# Altium footprint library Mypcb.PcbLib: 144 footprints (part 6 of 9)
Each footprint in its own frame and in the unit in brackets; x right, y up, seen from the top. Pads: shape width x height; smd on the part's side, far side on the other; paste and mask are expansions set on the pad; w line width, h text height; cw(c..) or ccw(c..) is an arc to the next point about the centre after c.
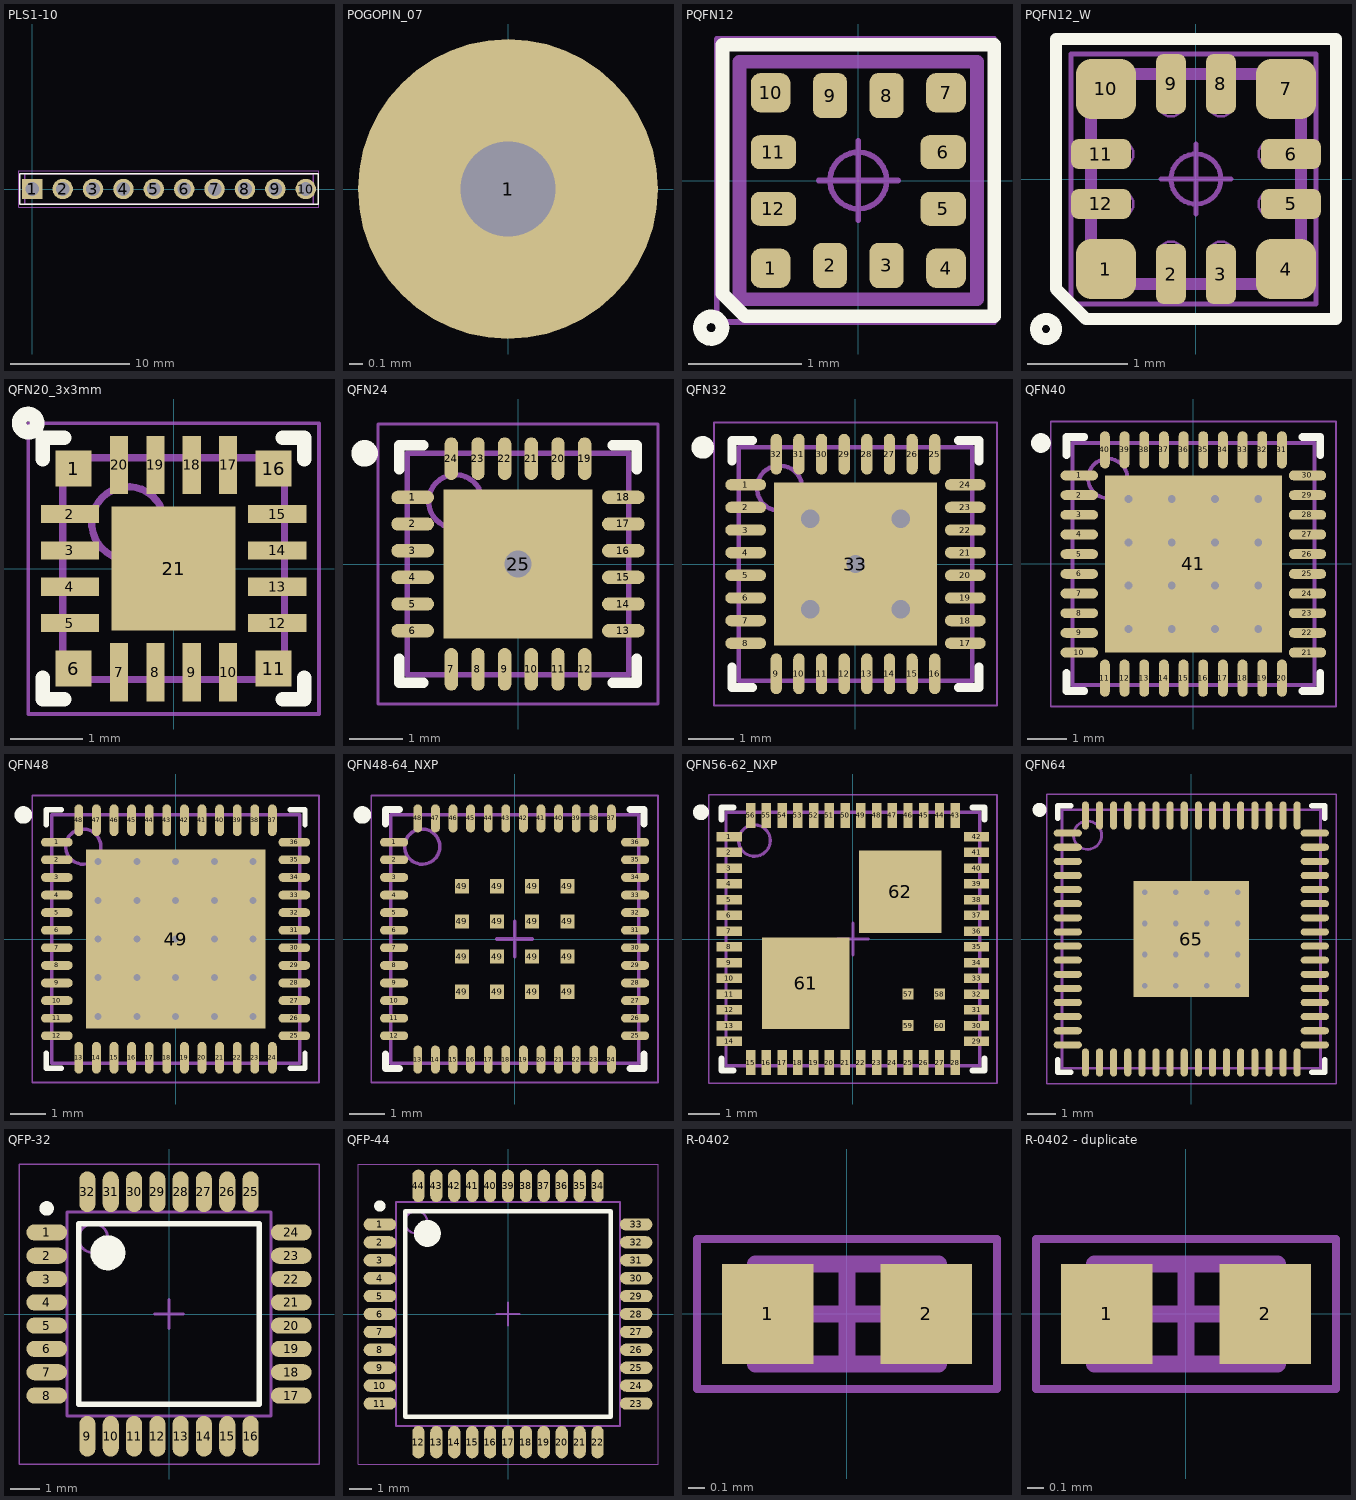
[diagram p5: the footprints below, top view; thin cyan lines are the x and y axes]

## PLS1-10 [mm] "Header, Vertical, 2.54 mm pitch; 0.70 mm lead width, 10 pins, 1 row, 10 pins per row, 24.13 mm L X 2.54 mm W X 7.54 mm H body"
height 7.54
pads (10):
  rect 1.71x1.71 hole 1.14 paste-1.71: 1(0,0)
  round 1.71 hole 1.14 paste-1.71: 2(2.54,0) 3(5.08,0) 4(7.62,0) 5(10.16,0) 6(12.7,0) 7(15.24,0) 8(17.78,0) 9(20.32,0) 10(22.86,0)
Top Overlay:
  lines w0.12: -1.04,-1.27 23.9,-1.27 23.9,1.27 -1.04,1.27 -1.04,-1.27
Mechanical 11:
  lines w0.12: -0.64,-1.27 23.5,-1.27 23.5,1.27 -0.64,1.27 -0.64,-1.27
Mechanical 12:
  lines w0.025: -0.635,-1.27 23.495,-1.27 23.495,1.27 -0.635,1.27 -0.635,-1.27 ; -0.35,-0.35 0.35,-0.35 0.35,0.35 -0.35,0.35 -0.35,-0.35 ; 2.19,-0.35 2.89,-0.35 2.89,0.35 2.19,0.35 2.19,-0.35 ; 4.73,-0.35 5.43,-0.35 5.43,0.35 4.73,0.35 4.73,-0.35 ; 7.27,-0.35 7.97,-0.35 7.97,0.35 7.27,0.35 7.27,-0.35 ; 9.81,-0.35 10.51,-0.35 10.51,0.35 9.81,0.35 9.81,-0.35 ; 12.35,-0.35 13.05,-0.35 13.05,0.35 12.35,0.35 12.35,-0.35 ; 14.89,-0.35 15.59,-0.35 15.59,0.35 14.89,0.35 14.89,-0.35 ; 17.43,-0.35 18.13,-0.35 18.13,0.35 17.43,0.35 17.43,-0.35 ; 19.97,-0.35 20.67,-0.35 20.67,0.35 19.97,0.35 19.97,-0.35 ; 22.51,-0.35 23.21,-0.35 23.21,0.35 22.51,0.35 22.51,-0.35
Mechanical 15:
  circle w0.05: c0,0 r0.25
  lines w0.05: -0.35,0 0.35,0 ; 0,-0.35 0,0.35 ; -1.11,-1.52 23.97,-1.52 23.97,1.52 -1.11,1.52 -1.11,-1.52
3D body "HDRV10W70P254_10X1_2413X254H754.STEP": height 7.54, standoff -2.3, extent -0.635,-1.27 23.495,1.27

## POGOPIN_07 [mm]
pads (1):
  round 2.2 hole 0.7: 1(0,0)
3D body "Pogo_pins_P75-B1.stp": height 15, standoff -1.44, extent -0.506,-0.509 0.51,0.509

## PQFN12 [mm] "Pullback Quad Flat No-Lead (PQFN), 0.50 mm pitch; square, 4 pin X 2 pin, 2.00 mm L X 2.00 mm W X 0.70 mm H body"
height 0.7
pads (12):
  rrect51% 0.35x0.35 smd: 1(-0.775,-0.775) 4(0.775,-0.775) 7(0.775,0.775) 10(-0.775,0.775)
  rrect51% 0.3x0.4 smd: 2(-0.25,-0.75) 3(0.25,-0.75) 8(0.25,0.75) 9(-0.25,0.75)
  rrect51% 0.4x0.3 smd: 5(0.75,-0.25) 6(0.75,0.25) 11(-0.75,0.25) 12(-0.75,-0.25)
Top Overlay:
  circle w0.12: c-1.3,-1.3 r0.1
  lines w0.12: -1.2,-1 -1,-1.2 1.2,-1.2 1.2,1.2 -1.2,1.2 -1.2,-1
Mechanical 11:
  lines w0.12: -1.05,-1.05 1.05,-1.05 1.05,1.05 -1.05,1.05 -1.05,-1.05
Mechanical 12:
  lines w0.025: -1,-1 1,-1 1,1 -1,1 -1,-1 ; -0.9,-0.375 -0.9,-0.125 -0.75,-0.125 cw(c-0.75,-0.25) -0.75,-0.375 -0.9,-0.375 ; -0.9,0.125 -0.9,0.375 -0.75,0.375 cw(c-0.75,0.25) -0.75,0.125 -0.9,0.125 ; -0.875,-0.9 -0.625,-0.9 -0.625,-0.75 ccw(c-0.75,-0.75) -0.875,-0.75 -0.875,-0.9 ; -0.875,0.75 ccw(c-0.75,0.75) -0.625,0.75 -0.625,0.9 -0.875,0.9 -0.875,0.75 ; -0.375,-0.9 -0.125,-0.9 -0.125,-0.75 ccw(c-0.25,-0.75) -0.375,-0.75 -0.375,-0.9 ; -0.375,0.75 ccw(c-0.25,0.75) -0.125,0.75 -0.125,0.9 -0.375,0.9 -0.375,0.75 ; 0.125,-0.9 0.375,-0.9 0.375,-0.75 ccw(c0.25,-0.75) 0.125,-0.75 0.125,-0.9 ; 0.125,0.75 ccw(c0.25,0.75) 0.375,0.75 0.375,0.9 0.125,0.9 0.125,0.75 ; 0.625,-0.9 0.875,-0.9 0.875,-0.75 ccw(c0.75,-0.75) 0.625,-0.75 0.625,-0.9 ; 0.625,0.75 ccw(c0.75,0.75) 0.875,0.75 0.875,0.9 0.625,0.9 0.625,0.75 ; 0.75,-0.375 cw(c0.75,-0.25) 0.75,-0.125 0.9,-0.125 0.9,-0.375 0.75,-0.375 ; 0.75,0.125 cw(c0.75,0.25) 0.75,0.375 0.9,0.375 0.9,0.125 0.75,0.125
Mechanical 15:
  circle w0.05: c0,0 r0.25
  lines w0.05: -0.35,0 0.35,0 ; 0,-0.35 0,0.35 ; -1.25,-1.25 1.2,-1.25 1.2,1.25 -1.25,1.25 -1.25,-1.25
3D body "PQFN12P50_200X200X70L27X25.STEP": height 0.7, standoff 0, extent -1,-1 1,1

## PQFN12_W [mm]
pads (12):
  rrect51% 0.6x0.6 smd: 1(-0.9,-0.9) 4(0.9,-0.9) 7(0.9,0.9) 10(-0.9,0.9)
  rrect51% 0.3x0.6 smd: 2(-0.25,-0.95) 3(0.25,-0.95) 8(0.25,0.95) 9(-0.25,0.95)
  rrect51% 0.6x0.3 smd: 5(0.95,-0.25) 6(0.95,0.25) 11(-0.95,0.25) 12(-0.95,-0.25)
Top Overlay:
  circle w0.12: c-1.5,-1.5 r0.1
  lines w0.12: -1.4,-1.1 -1.1,-1.4 1.4,-1.4 1.4,1.4 -1.4,1.4 -1.4,-1.1
Mechanical 11:
  lines w0.12: -1.05,-1.05 1.05,-1.05 1.05,1.05 -1.05,1.05 -1.05,-1.05
Mechanical 12:
  lines w0.025: -1,-1 1,-1 1,1 -1,1 -1,-1 ; -0.9,-0.375 -0.9,-0.125 -0.75,-0.125 cw(c-0.75,-0.25) -0.75,-0.375 -0.9,-0.375 ; -0.9,0.125 -0.9,0.375 -0.75,0.375 cw(c-0.75,0.25) -0.75,0.125 -0.9,0.125 ; -0.875,-0.9 -0.625,-0.9 -0.625,-0.75 ccw(c-0.75,-0.75) -0.875,-0.75 -0.875,-0.9 ; -0.875,0.75 ccw(c-0.75,0.75) -0.625,0.75 -0.625,0.9 -0.875,0.9 -0.875,0.75 ; -0.375,-0.9 -0.125,-0.9 -0.125,-0.75 ccw(c-0.25,-0.75) -0.375,-0.75 -0.375,-0.9 ; -0.375,0.75 ccw(c-0.25,0.75) -0.125,0.75 -0.125,0.9 -0.375,0.9 -0.375,0.75 ; 0.125,-0.9 0.375,-0.9 0.375,-0.75 ccw(c0.25,-0.75) 0.125,-0.75 0.125,-0.9 ; 0.125,0.75 ccw(c0.25,0.75) 0.375,0.75 0.375,0.9 0.125,0.9 0.125,0.75 ; 0.625,-0.9 0.875,-0.9 0.875,-0.75 ccw(c0.75,-0.75) 0.625,-0.75 0.625,-0.9 ; 0.625,0.75 ccw(c0.75,0.75) 0.875,0.75 0.875,0.9 0.625,0.9 0.625,0.75 ; 0.75,-0.375 cw(c0.75,-0.25) 0.75,-0.125 0.9,-0.125 0.9,-0.375 0.75,-0.375 ; 0.75,0.125 cw(c0.75,0.25) 0.75,0.375 0.9,0.375 0.9,0.125 0.75,0.125
Mechanical 15:
  circle w0.05: c0,0 r0.25
  lines w0.05: -0.35,0 0.35,0 ; 0,-0.35 0,0.35 ; -1.25,-1.25 1.2,-1.25 1.2,1.25 -1.25,1.25 -1.25,-1.25
3D body "PQFN12P50_200X200X70L27X25.STEP": height 0.7, standoff 0, extent -1,-1 1,1

## QFN20_3x3mm [mm] "QFN, 20-Leads, Body 3,00x3,00mm, Pitch 0,50mm, Thermal Pad 1,70x1,70mm, IPC Medium Density"
height 0.6
pads (21):
  rect 0.5x0.5 smd: 1(-1.375,1.375) 6(-1.375,-1.375) 11(1.375,-1.375) 16(1.375,1.375)
  rect 0.8x0.25 smd: 2(-1.425,0.75) 3(-1.425,0.25) 4(-1.425,-0.25) 5(-1.425,-0.75) 12(1.425,-0.75) 13(1.425,-0.25) 14(1.425,0.25) 15(1.425,0.75)
  rect 0.25x0.8 smd: 7(-0.75,-1.425) 8(-0.25,-1.425) 9(0.25,-1.425) 10(0.75,-1.425) 17(0.75,1.425) 18(0.25,1.425) 19(-0.25,1.425) 20(-0.75,1.425)
  rect 1.7x1.7 smd: 21(0,0)
Top Overlay:
  circle w0.2: c-2,2 r0.125
  lines w0.2: -1.8,-1.5 -1.8,-1.8 -1.5,-1.8 ; -1.8,1.5 -1.8,1.8 -1.5,1.8 ; 1.5,-1.8 1.8,-1.8 1.8,-1.5 ; 1.5,1.8 1.8,1.8 1.8,1.5
Mechanical 13:
  circle w0.1: c-0.625,0.625 r0.5
  lines w0.1: -1.525,-1.525 1.525,-1.525 1.525,1.525 -1.525,1.525 -1.525,-1.525
Mechanical 15:
  lines w0.05: -2,-2 2,-2 2,2 -2,2 -2,-2
  lines w0.1: -0.5,0 0.5,0 ; 0,-0.5 0,0.5
3D body "QFN50P300X300X60_HS-21N.step": height 0.6, standoff 0, extent -1.526,-1.526 1.526,1.526

## QFN24 [mm] "QFN, 24-Leads, Body 4,00x4,00mm, Pitch 0,50mm, Thermal Pad 2,80x2,80mm, IPC Medium Density"
height 1
pads (25):
  oval 0.8x0.25 smd: 1(-1.975,1.25) 2(-1.975,0.75) 3(-1.975,0.25) 4(-1.975,-0.25) 5(-1.975,-0.75) 6(-1.975,-1.25) 13(1.975,-1.25) 14(1.975,-0.75) 15(1.975,-0.25) 16(1.975,0.25) 17(1.975,0.75) 18(1.975,1.25)
  oval 0.25x0.8 smd: 7(-1.25,-1.975) 8(-0.75,-1.975) 9(-0.25,-1.975) 10(0.25,-1.975) 11(0.75,-1.975) 12(1.25,-1.975) 19(1.25,1.975) 20(0.75,1.975) 21(0.25,1.975) 22(-0.25,1.975) 23(-0.75,1.975) 24(-1.25,1.975)
  rect 2.8x2.8 smd: 25(0,0)
via 0,0 diameter 1 hole 0.5
Top Overlay:
  circle w0.25: c-2.875,2.075 r0.125
  lines w0.2: -2.225,-1.775 -2.225,-2.225 -1.775,-2.225 ; -2.225,1.775 -2.225,2.225 -1.775,2.225 ; 1.775,-2.225 2.225,-2.225 2.225,-1.775 ; 1.775,2.225 2.225,2.225 2.225,1.775
Mechanical 13:
  circle w0.1: c-1.175,1.175 r0.5
  lines w0.1: -2.075,-2.075 2.075,-2.075 2.075,2.075 -2.075,2.075 -2.075,-2.075
Mechanical 15:
  lines w0.05: -2.625,-2.625 2.625,-2.625 2.625,2.625 -2.625,2.625 -2.625,-2.625
  lines w0.1: -0.5,0 0.5,0 ; 0,-0.5 0,0.5
3D body: height 1, standoff 0.01, extent -2.075,-2.075 2.075,2.075

## QFN32 [mm] "QFN, 32-Leads, Body 5,00x5,00mm, Pitch 0,50mm, Thermal Pad 3,60x3,60mm, IPC Medium Density"
height 1
pads (33):
  oval 0.9x0.25 smd: 1(-2.425,1.75) 2(-2.425,1.25) 3(-2.425,0.75) 4(-2.425,0.25) 5(-2.425,-0.25) 6(-2.425,-0.75) 7(-2.425,-1.25) 8(-2.425,-1.75) 17(2.425,-1.75) 18(2.425,-1.25) 19(2.425,-0.75) 20(2.425,-0.25) 21(2.425,0.25) 22(2.425,0.75) 23(2.425,1.25) 24(2.425,1.75)
  oval 0.25x0.9 smd: 9(-1.75,-2.425) 10(-1.25,-2.425) 11(-0.75,-2.425) 12(-0.25,-2.425) 13(0.25,-2.425) 14(0.75,-2.425) 15(1.25,-2.425) 16(1.75,-2.425) 25(1.75,2.425) 26(1.25,2.425) 27(0.75,2.425) 28(0.25,2.425) 29(-0.25,2.425) 30(-0.75,2.425) 31(-1.25,2.425) 32(-1.75,2.425)
  rect 3.6x3.6 smd: 33(0,0)
via -1,-1 diameter 0.8 hole 0.4
via -1,1 diameter 0.8 hole 0.4
via 1,1 diameter 0.8 hole 0.4
via 1,-1 diameter 0.8 hole 0.4
via 0,0 diameter 0.8 hole 0.4
Top Overlay:
  circle w0.25: c-3.375,2.575 r0.125
  lines w0.2: -2.725,-2.275 -2.725,-2.725 -2.275,-2.725 ; -2.725,2.275 -2.725,2.725 -2.275,2.725 ; 2.275,-2.725 2.725,-2.725 2.725,-2.275 ; 2.275,2.725 2.725,2.725 2.725,2.275
Mechanical 13:
  circle w0.1: c-1.675,1.675 r0.5
  lines w0.1: -2.575,-2.575 -2.575,2.575 2.575,2.575 2.575,-2.575 -2.575,-2.575
Mechanical 15:
  lines w0.05: -3.125,-3.125 -3.125,3.125 3.125,3.125 3.125,-3.125 -3.125,-3.125
  lines w0.1: -0.5,0 0.5,0 ; 0,-0.5 0,0.5
3D body: height 1, standoff 0.01, extent -2.575,-2.575 2.575,2.575

## QFN40 [mm] "QFN, 40-Leads, Body 6,00x6,00mm, Pitch 0,50mm, Thermal Pad 4,50x4,50mm, IPC Medium Density"
height 1
pads (41):
  oval 0.95x0.25 smd: 1(-2.9,2.25) 2(-2.9,1.75) 3(-2.9,1.25) 4(-2.9,0.75) 5(-2.9,0.25) 6(-2.9,-0.25) 7(-2.9,-0.75) 8(-2.9,-1.25) 9(-2.9,-1.75) 10(-2.9,-2.25) 21(2.9,-2.25) 22(2.9,-1.75) 23(2.9,-1.25) 24(2.9,-0.75) 25(2.9,-0.25) 26(2.9,0.25) 27(2.9,0.75) 28(2.9,1.25) 29(2.9,1.75) 30(2.9,2.25)
  oval 0.25x0.95 smd: 11(-2.25,-2.9) 12(-1.75,-2.9) 13(-1.25,-2.9) 14(-0.75,-2.9) 15(-0.25,-2.9) 16(0.25,-2.9) 17(0.75,-2.9) 18(1.25,-2.9) 19(1.75,-2.9) 20(2.25,-2.9) 31(2.25,2.9) 32(1.75,2.9) 33(1.25,2.9) 34(0.75,2.9) 35(0.25,2.9) 36(-0.25,2.9) 37(-0.75,2.9) 38(-1.25,2.9) 39(-1.75,2.9) 40(-2.25,2.9)
  rect 4.5x4.5 smd: 41(0,0)
via -1.65,1.65 diameter 0.5 hole 0.2
via -0.55,1.65 diameter 0.5 hole 0.2
via 0.55,1.65 diameter 0.5 hole 0.2
via 1.65,1.65 diameter 0.5 hole 0.2
via -1.65,0.55 diameter 0.5 hole 0.2
via -0.55,0.55 diameter 0.5 hole 0.2
via 0.55,0.55 diameter 0.5 hole 0.2
via 1.65,0.55 diameter 0.5 hole 0.2
via -1.65,-0.55 diameter 0.5 hole 0.2
via -0.55,-0.55 diameter 0.5 hole 0.2
via 0.55,-0.55 diameter 0.5 hole 0.2
via 1.65,-0.55 diameter 0.5 hole 0.2
via -1.65,-1.65 diameter 0.5 hole 0.2
via -0.55,-1.65 diameter 0.5 hole 0.2
via 0.55,-1.65 diameter 0.5 hole 0.2
via 1.65,-1.65 diameter 0.5 hole 0.2
Top Overlay:
  circle w0.25: c-3.875,3.075 r0.125
  lines w0.2: -3.225,-2.775 -3.225,-3.225 -2.775,-3.225 ; -3.225,2.775 -3.225,3.225 -2.775,3.225 ; 2.775,-3.225 3.225,-3.225 3.225,-2.775 ; 2.775,3.225 3.225,3.225 3.225,2.775
Mechanical 13:
  circle w0.1: c-2.175,2.175 r0.5
  lines w0.1: -3.075,-3.075 -3.075,3.075 3.075,3.075 3.075,-3.075 -3.075,-3.075
Mechanical 15:
  lines w0.05: -3.625,-3.625 -3.625,3.625 3.625,3.625 3.625,-3.625 -3.625,-3.625
  lines w0.1: -0.5,0 0.5,0 ; 0,-0.5 0,0.5
3D body: height 1, standoff 0.01, extent -3.075,-3.075 3.075,3.075

## QFN48 [mm] "QFN, 48-Leads, Body 7,00x7,00mm, Pitch 0,50mm, Thermal Pad 5,10x5,10mm, IPC Medium Density"
height 1
pads (49):
  oval 0.9x0.25 smd: 1(-3.375,2.75) 2(-3.375,2.25) 3(-3.375,1.75) 4(-3.375,1.25) 5(-3.375,0.75) 6(-3.375,0.25) 7(-3.375,-0.25) 8(-3.375,-0.75) 9(-3.375,-1.25) 10(-3.375,-1.75) 11(-3.375,-2.25) 12(-3.375,-2.75) 25(3.375,-2.75) 26(3.375,-2.25) 27(3.375,-1.75) 28(3.375,-1.25) 29(3.375,-0.75) 30(3.375,-0.25) 31(3.375,0.25) 32(3.375,0.75) 33(3.375,1.25) 34(3.375,1.75) 35(3.375,2.25) 36(3.375,2.75)
  oval 0.25x0.9 smd: 13(-2.75,-3.375) 14(-2.25,-3.375) 15(-1.75,-3.375) 16(-1.25,-3.375) 17(-0.75,-3.375) 18(-0.25,-3.375) 19(0.25,-3.375) 20(0.75,-3.375) 21(1.25,-3.375) 22(1.75,-3.375) 23(2.25,-3.375) 24(2.75,-3.375) 37(2.75,3.375) 38(2.25,3.375) 39(1.75,3.375) 40(1.25,3.375) 41(0.75,3.375) 42(0.25,3.375) 43(-0.25,3.375) 44(-0.75,3.375) 45(-1.25,3.375) 46(-1.75,3.375) 47(-2.25,3.375) 48(-2.75,3.375)
  rect 5.1x5.1 smd: 49(0,0)
via 2.2,-2.2 diameter 0.5 hole 0.2
via 1.1,-2.2 diameter 0.5 hole 0.2
via 0,-2.2 diameter 0.5 hole 0.2
via -1.1,-2.2 diameter 0.5 hole 0.2
via -2.2,-2.2 diameter 0.5 hole 0.2
via 2.2,-1.1 diameter 0.5 hole 0.2
via 1.1,-1.1 diameter 0.5 hole 0.2
via 0,-1.1 diameter 0.5 hole 0.2
via -1.1,-1.1 diameter 0.5 hole 0.2
via -2.2,-1.1 diameter 0.5 hole 0.2
via 2.2,0 diameter 0.5 hole 0.2
via 1.1,0 diameter 0.5 hole 0.2
via 0,0 diameter 0.5 hole 0.2
via -1.1,0 diameter 0.5 hole 0.2
via -2.2,0 diameter 0.5 hole 0.2
via 2.2,1.1 diameter 0.5 hole 0.2
via 1.1,1.1 diameter 0.5 hole 0.2
via 0,1.1 diameter 0.5 hole 0.2
via -1.1,1.1 diameter 0.5 hole 0.2
via -2.2,1.1 diameter 0.5 hole 0.2
via 2.2,2.2 diameter 0.5 hole 0.2
via 1.1,2.2 diameter 0.5 hole 0.2
via 0,2.2 diameter 0.5 hole 0.2
via -1.1,2.2 diameter 0.5 hole 0.2
via -2.2,2.2 diameter 0.5 hole 0.2
Top Overlay:
  circle w0.25: c-4.325,3.525 r0.125
  lines w0.15: -3.675,-3.25 -3.675,-3.675 -3.25,-3.675 ; -3.675,3.25 -3.675,3.675 -3.25,3.675 ; 3.25,-3.675 3.675,-3.675 3.675,-3.25 ; 3.25,3.675 3.675,3.675 3.675,3.25
Mechanical 13:
  circle w0.1: c-2.625,2.625 r0.5
  lines w0.1: -3.525,-3.525 3.525,-3.525 3.525,3.525 -3.525,3.525 -3.525,-3.525
Mechanical 15:
  lines w0.05: -4.075,-4.075 4.075,-4.075 4.075,4.075 -4.075,4.075 -4.075,-4.075
  lines w0.1: -0.5,0 0.5,0 ; 0,-0.5 0,0.5
3D body: height 1, standoff 0.01, extent -3.525,-3.525 3.525,3.525

## QFN48-64_NXP [mm] "QFN, 48-Leads, Body 7,00x7,00mm, Pitch 0,50mm, 16 Thermal Pads"
height 1
pads (64):
  oval 0.8x0.25 smd: 1(-3.425,2.75) 2(-3.425,2.25) 3(-3.425,1.75) 4(-3.425,1.25) 5(-3.425,0.75) 6(-3.425,0.25) 7(-3.425,-0.25) 8(-3.425,-0.75) 9(-3.425,-1.25) 10(-3.425,-1.75) 11(-3.425,-2.25) 12(-3.425,-2.75) 25(3.425,-2.75) 26(3.425,-2.25) 27(3.425,-1.75) 28(3.425,-1.25) 29(3.425,-0.75) 30(3.425,-0.25) 31(3.425,0.25) 32(3.425,0.75) 33(3.425,1.25) 34(3.425,1.75) 35(3.425,2.25) 36(3.425,2.75)
  oval 0.25x0.8 smd: 13(-2.75,-3.425) 14(-2.25,-3.425) 15(-1.75,-3.425) 16(-1.25,-3.425) 17(-0.75,-3.425) 18(-0.25,-3.425) 19(0.25,-3.425) 20(0.75,-3.425) 21(1.25,-3.425) 22(1.75,-3.425) 23(2.25,-3.425) 24(2.75,-3.425) 37(2.75,3.425) 38(2.25,3.425) 39(1.75,3.425) 40(1.25,3.425) 41(0.75,3.425) 42(0.25,3.425) 43(-0.25,3.425) 44(-0.75,3.425) 45(-1.25,3.425) 46(-1.75,3.425) 47(-2.25,3.425) 48(-2.75,3.425)
  rect 0.4x0.4 smd: 49(-1.5,-1.5) 49(-1.5,-0.5) 49(-1.5,0.5) 49(-1.5,1.5) 49(-0.5,-1.5) 49(-0.5,-0.5) 49(-0.5,0.5) 49(-0.5,1.5) 49(0.5,-1.5) 49(0.5,-0.5) 49(0.5,0.5) 49(0.5,1.5) 49(1.5,-1.5) 49(1.5,-0.5) 49(1.5,0.5) 49(1.5,1.5)
Top Overlay:
  circle w0.25: c-4.325,3.525 r0.125
  lines w0.2: -3.675,-3.275 -3.675,-3.675 -3.275,-3.675 ; -3.675,3.275 -3.675,3.675 -3.275,3.675 ; 3.275,-3.675 3.675,-3.675 3.675,-3.275 ; 3.275,3.675 3.675,3.675 3.675,3.275
Mechanical 13:
  circle w0.1: c-2.625,2.625 r0.5
  lines w0.1: -3.525,-3.525 3.525,-3.525 3.525,3.525 -3.525,3.525 -3.525,-3.525
Mechanical 15:
  lines w0.05: -4.075,-4.075 4.075,-4.075 4.075,4.075 -4.075,4.075 -4.075,-4.075
  lines w0.1: -0.5,0 0.5,0 ; 0,-0.5 0,0.5
3D body: height 1, standoff 0.01, extent -3.525,-3.525 3.525,3.525

## QFN56-62_NXP [mm] "QFN, 60-Leads, Body 8,00x8,00mm, Pitch 0,50mm, 2 thermal pads"
height 1
pads (62):
  rect 0.8x0.3 smd: 1(-3.925,3.25) 2(-3.925,2.75) 3(-3.925,2.25) 4(-3.925,1.75) 5(-3.925,1.25) 6(-3.925,0.75) 7(-3.925,0.25) 8(-3.925,-0.25) 9(-3.925,-0.75) 10(-3.925,-1.25) 11(-3.925,-1.75) 12(-3.925,-2.25) 13(-3.925,-2.75) 14(-3.925,-3.25) 29(3.925,-3.25) 30(3.925,-2.75) 31(3.925,-2.25) 32(3.925,-1.75) 33(3.925,-1.25) 34(3.925,-0.75) 35(3.925,-0.25) 36(3.925,0.25) 37(3.925,0.75) 38(3.925,1.25) 39(3.925,1.75) 40(3.925,2.25) 41(3.925,2.75) 42(3.925,3.25)
  rect 0.3x0.8 smd: 15(-3.25,-3.925) 16(-2.75,-3.925) 17(-2.25,-3.925) 18(-1.75,-3.925) 19(-1.25,-3.925) 20(-0.75,-3.925) 21(-0.25,-3.925) 22(0.25,-3.925) 23(0.75,-3.925) 24(1.25,-3.925) 25(1.75,-3.925) 26(2.25,-3.925) 27(2.75,-3.925) 28(3.25,-3.925) 43(3.25,3.925) 44(2.75,3.925) 45(2.25,3.925) 46(1.75,3.925) 47(1.25,3.925) 48(0.75,3.925) 49(0.25,3.925) 50(-0.25,3.925) 51(-0.75,3.925) 52(-1.25,3.925) 53(-1.75,3.925) 54(-2.25,3.925) 55(-2.75,3.925) 56(-3.25,3.925)
  rect 0.35x0.35 smd: 57(1.75,-1.75) 58(2.75,-1.75) 59(1.75,-2.75) 60(2.75,-2.75)
  rect 2.77x2.9 smd: 61(-1.5,-1.4)
  rect 2.62x2.62 smd: 62(1.5,1.5)
Top Overlay:
  circle w0.25: c-4.825,4.025 r0.125
  lines w0.2: -4.175,-3.8 -4.175,-4.175 -3.8,-4.175 ; -4.175,3.8 -4.175,4.175 -3.8,4.175 ; 3.8,-4.175 4.175,-4.175 4.175,-3.8 ; 3.8,4.175 4.175,4.175 4.175,3.8
Mechanical 13:
  circle w0.1: c-3.125,3.125 r0.5
  lines w0.1: -4.025,-4.025 -4.025,4.025 4.025,4.025 4.025,-4.025 -4.025,-4.025
Mechanical 15:
  lines w0.05: -4.575,-4.575 -4.575,4.575 4.575,4.575 4.575,-4.575 -4.575,-4.575
  lines w0.1: -0.5,0 0.5,0 ; 0,-0.5 0,0.5
3D body "QFN50P800X800X100_HS-57N.step": height 1, standoff 0, extent -4.035,-4.035 4.035,4.035

## QFN64 [mm] "QFN, 64-Leads, Body 9,00x9,00mm, Pitch 0,50mm, Thermal Pad 4,10x4,10mm, IPC Medium Density"
height 1
pads (65):
  oval 1x0.25 smd: 1(-4.375,3.75) 2(-4.375,3.25) 3(-4.375,2.75) 4(-4.375,2.25) 5(-4.375,1.75) 6(-4.375,1.25) 7(-4.375,0.75) 8(-4.375,0.25) 9(-4.375,-0.25) 10(-4.375,-0.75) 11(-4.375,-1.25) 12(-4.375,-1.75) 13(-4.375,-2.25) 14(-4.375,-2.75) 15(-4.375,-3.25) 16(-4.375,-3.75) 33(4.375,-3.75) 34(4.375,-3.25) 35(4.375,-2.75) 36(4.375,-2.25) 37(4.375,-1.75) 38(4.375,-1.25) 39(4.375,-0.75) 40(4.375,-0.25) 41(4.375,0.25) 42(4.375,0.75) 43(4.375,1.25) 44(4.375,1.75) 45(4.375,2.25) 46(4.375,2.75) 47(4.375,3.25) 48(4.375,3.75)
  oval 0.25x1 smd: 17(-3.75,-4.375) 18(-3.25,-4.375) 19(-2.75,-4.375) 20(-2.25,-4.375) 21(-1.75,-4.375) 22(-1.25,-4.375) 23(-0.75,-4.375) 24(-0.25,-4.375) 25(0.25,-4.375) 26(0.75,-4.375) 27(1.25,-4.375) 28(1.75,-4.375) 29(2.25,-4.375) 30(2.75,-4.375) 31(3.25,-4.375) 32(3.75,-4.375) 49(3.75,4.375) 50(3.25,4.375) 51(2.75,4.375) 52(2.25,4.375) 53(1.75,4.375) 54(1.25,4.375) 55(0.75,4.375) 56(0.25,4.375) 57(-0.25,4.375) 58(-0.75,4.375) 59(-1.25,4.375) 60(-1.75,4.375) 61(-2.25,4.375) 62(-2.75,4.375) 63(-3.25,4.375) 64(-3.75,4.375)
  rect 4.1x4.1 smd: 65(0,0)
via 1.65,-1.65 diameter 0.5 hole 0.2
via 0.55,-1.65 diameter 0.5 hole 0.2
via -0.55,-1.65 diameter 0.5 hole 0.2
via -1.65,-1.65 diameter 0.5 hole 0.2
via 1.65,-0.55 diameter 0.5 hole 0.2
via 0.55,-0.55 diameter 0.5 hole 0.2
via -0.55,-0.55 diameter 0.5 hole 0.2
via -1.65,-0.55 diameter 0.5 hole 0.2
via 1.65,0.55 diameter 0.5 hole 0.2
via 0.55,0.55 diameter 0.5 hole 0.2
via -0.55,0.55 diameter 0.5 hole 0.2
via -1.65,0.55 diameter 0.5 hole 0.2
via 1.65,1.65 diameter 0.5 hole 0.2
via 0.55,1.65 diameter 0.5 hole 0.2
via -0.55,1.65 diameter 0.5 hole 0.2
via -1.65,1.65 diameter 0.5 hole 0.2
Top Overlay:
  circle w0.25: c-5.375,4.575 r0.125
  lines w0.2: -4.725,-4.275 -4.725,-4.725 -4.275,-4.725 ; -4.725,4.275 -4.725,4.725 -4.275,4.725 ; 4.275,-4.725 4.725,-4.725 4.725,-4.275 ; 4.275,4.725 4.725,4.725 4.725,4.275
Mechanical 13:
  circle w0.1: c-3.675,3.675 r0.5
  lines w0.1: -4.575,-4.575 4.575,-4.575 4.575,4.575 -4.575,4.575 -4.575,-4.575
Mechanical 15:
  lines w0.05: -5.125,-5.125 5.125,-5.125 5.125,5.125 -5.125,5.125 -5.125,-5.125
  lines w0.1: -0.5,0 0.5,0 ; 0,-0.5 0,0.5
3D body: height 1, standoff 0.01, extent -4.575,-4.575 4.575,4.575

## QFP-32 [mm] "TQFP, 32-Leads, Body 7,00x7,00mm, Pitch 0,80mm, IPC Medium Density"
height 1.6
pads (32):
  oval 1.4x0.55 smd: 1(-4.2,2.8) 2(-4.2,2) 3(-4.2,1.2) 4(-4.2,0.4) 5(-4.2,-0.4) 6(-4.2,-1.2) 7(-4.2,-2) 8(-4.2,-2.8) 17(4.2,-2.8) 18(4.2,-2) 19(4.2,-1.2) 20(4.2,-0.4) 21(4.2,0.4) 22(4.2,1.2) 23(4.2,2) 24(4.2,2.8)
  oval 0.55x1.4 smd: 9(-2.8,-4.2) 10(-2,-4.2) 11(-1.2,-4.2) 12(-0.4,-4.2) 13(0.4,-4.2) 14(1.2,-4.2) 15(2,-4.2) 16(2.8,-4.2) 25(2.8,4.2) 26(2,4.2) 27(1.2,4.2) 28(0.4,4.2) 29(-0.4,4.2) 30(-1.2,4.2) 31(-2,4.2) 32(-2.8,4.2)
Top Overlay:
  circle w0.25: c-4.2,3.625 r0.125
  circle w0.6: c-2.1,2.1 r0.3
  lines w0.2: -3.1,-3.1 -3.1,3.1 3.1,3.1 3.1,-3.1 -3.1,-3.1
Mechanical 13:
  circle w0.1: c-2.6,2.6 r0.5
  lines w0.1: -3.5,-3.5 -3.5,3.5 3.5,3.5 3.5,-3.5 -3.5,-3.5
Mechanical 15:
  lines w0.05: -5.15,-5.15 -5.15,5.15 5.15,5.15 5.15,-5.15 -5.15,-5.15
  lines w0.1: -0.5,0 0.5,0 ; 0,-0.5 0,0.5
3D body: height 1.6, standoff 0.05, extent -3.5,-3.5 3.5,3.5

## QFP-44 [mm] "TQFP, 44-Leads, Body 10,00x10,00mm, Pitch 0,80mm, IPC Medium Density"
height 1.6
pads (44):
  oval 1.45x0.55 smd: 1(-5.725,4) 2(-5.725,3.2) 3(-5.725,2.4) 4(-5.725,1.6) 5(-5.725,0.8) 6(-5.725,0) 7(-5.725,-0.8) 8(-5.725,-1.6) 9(-5.725,-2.4) 10(-5.725,-3.2) 11(-5.725,-4) 23(5.725,-4) 24(5.725,-3.2) 25(5.725,-2.4) 26(5.725,-1.6) 27(5.725,-0.8) 28(5.725,0) 29(5.725,0.8) 30(5.725,1.6) 31(5.725,2.4) 32(5.725,3.2) 33(5.725,4)
  oval 0.55x1.45 smd: 12(-4,-5.725) 13(-3.2,-5.725) 14(-2.4,-5.725) 15(-1.6,-5.725) 16(-0.8,-5.725) 17(0,-5.725) 18(0.8,-5.725) 19(1.6,-5.725) 20(2.4,-5.725) 21(3.2,-5.725) 22(4,-5.725) 34(4,5.725) 35(3.2,5.725) 36(2.4,5.725) 37(1.6,5.725) 38(0.8,5.725) 39(0,5.725) 40(-0.8,5.725) 41(-1.6,5.725) 42(-2.4,5.725) 43(-3.2,5.725) 44(-4,5.725)
Top Overlay:
  circle w0.25: c-5.725,4.825 r0.125
  circle w0.6: c-3.6,3.6 r0.3
  lines w0.2: -4.6,-4.6 -4.6,4.6 4.6,4.6 4.6,-4.6 -4.6,-4.6
Mechanical 13:
  circle w0.1: c-4.1,4.1 r0.5
  lines w0.1: -5,-5 -5,5 5,5 5,-5 -5,-5
Mechanical 15:
  lines w0.05: -6.7,-6.7 -6.7,6.7 6.7,6.7 6.7,-6.7 -6.7,-6.7
  lines w0.1: -0.5,0 0.5,0 ; 0,-0.5 0,0.5
3D body: height 1.6, standoff 0.05, extent -5,-5 5,5

## R-0402 [mm] "Chip Resistor, 2-Leads, Body 1,05x0,54mm, IPC Medium Density"
height 0.5
pads (2):
  rect 0.55x0.6 smd: 1(-0.475,0) 2(0.475,0)
Mechanical 13:
  lines w0.1: -0.55,-0.3 -0.55,0.3 0.55,0.3 0.55,-0.3 -0.55,-0.3
Mechanical 15:
  lines w0.05: -0.9,-0.45 -0.9,0.45 0.9,0.45 0.9,-0.45 -0.9,-0.45
  lines w0.1: -0.3,0 0.3,0 ; 0,-0.3 0,0.3
3D body: height 0.5, standoff 0, extent -0.35,-0.3 0.35,0.3
3D body: height 0.5, standoff 0, extent -0.55,-0.3 -0.35,0.3
3D body: height 0.5, standoff 0, extent 0.35,-0.3 0.55,0.3

## R-0402 - duplicate [mm] "Chip Resistor, 2-Leads, Body 1,05x0,54mm, IPC Medium Density"
height 0.5
pads (2):
  rect 0.55x0.6 smd: 1(-0.475,0) 2(0.475,0)
Mechanical 11:
  text ".Designator" at -1.524,0.635 h0.8
Mechanical 13:
  lines w0.1: -0.55,-0.3 0.55,-0.3 0.55,0.3 -0.55,0.3 -0.55,-0.3
Mechanical 15:
  lines w0.05: -0.9,-0.45 0.9,-0.45 0.9,0.45 -0.9,0.45 -0.9,-0.45
  lines w0.1: -0.3,0 0.3,0 ; 0,-0.3 0,0.3
3D body: height 0.5, standoff 0, extent 0.35,-0.3 0.55,0.3
3D body: height 0.5, standoff 0, extent -0.55,-0.3 -0.35,0.3
3D body: height 0.5, standoff 0, extent -0.35,-0.3 0.35,0.3